# Altium schematic symbol library LM555CM.SchLib: 1 symbol
Pins are listed as number, name and electrical type; pins without a type are passive.

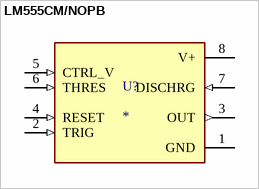
[diagram p0: symbol LM555CM/NOPB]

## LM555CM/NOPB
designator U?
MP: LM555CM/NOPB; MF: {'manufacturer': u'ON Semiconductor'}; Package: None; Price: None; Availability: Unavailable; Value: *
footprint SOIC127P600X175-8N
pins: 1 GND (power), 2 TRIG (in), 3 OUT (out), 4 RESET (in), 5 CTRL_V (in), 6 THRES (in), 7 DISCHRG (in), 8 V+ (power)